# Altium footprint library BTBeePro.PcbLib: 1 footprints
Each footprint in its own frame and in the unit in brackets; x right, y up, seen from the top. Pads: shape width x height; smd on the part's side, far side on the other; paste and mask are expansions set on the pad; w line width, h text height; cw(c..) or ccw(c..) is an arc to the next point about the centre after c.
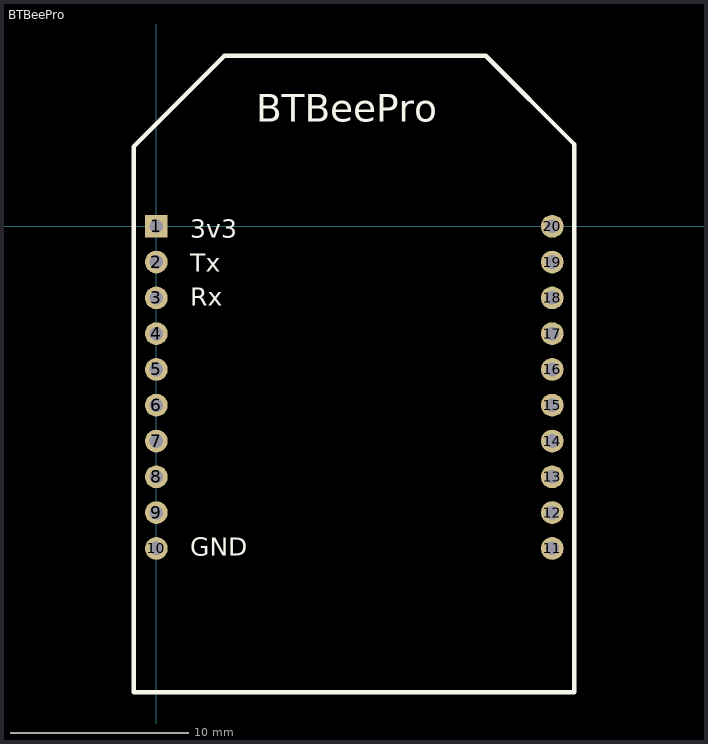
[diagram p0: the footprint, top view; thin cyan lines are the x and y axes]

## BTBeePro [mil]
pads (20):
  rect 50x50 hole 30: 1(0,0)
  round 50 hole 30: 2(0,-78.74) 3(0,-157.48) 4(0,-236.22) 5(0,-314.96) 6(0,-393.7) 7(0,-472.44) 8(0,-551.18) 9(0,-629.92) 10(0,-708.66) 11(871.14,-708.66) 12(871.14,-629.92) 13(871.14,-551.18) 14(871.14,-472.44) 15(871.14,-393.7) 16(871.14,-314.96) 17(871.14,-236.22) 18(871.14,-157.48) 19(871.14,-78.74) 20(871.14,0)
Top Overlay:
  lines w10: -50,-1025 920,-1025 920,180 725,375 150,375 -50,175 -50,-1025
  text "3v3" at 75,-25 h40
  text "Tx" at 75,-100 h40
  text "Rx" at 75,-175 h40
  text "GND" at 75,-725 h40
  text "BTBeePro" at 220,230 h60